# Altium schematic symbol library knowles_SPK_mic.Schlib: 1 symbol
Pins are listed as number, name and electrical type; pins without a type are passive.

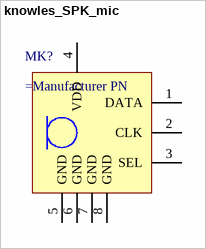
[diagram p0: symbol knowles_SPK_mic]

## knowles_SPK_mic
designator MK?
MEMs Microphone, PDM output
pins: 1 DATA, 2 CLK, 3 SEL, 4 VDD, 5 GND, 6 GND, 7 GND, 8 GND